# Altium schematic symbol library Protection DC.SchLib: 1 symbol
Pins are listed as number, name and electrical type; pins without a type are passive.

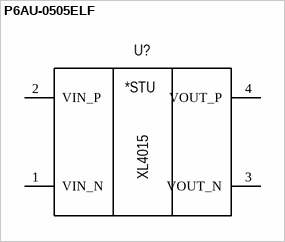
[diagram p0: symbol P6AU-0505ELF]

## P6AU-0505ELF
designator U?, comment XL4015
Manufacturer: XLSEMI; Group: PMIC - Voltage Regulators - DC DC Switching Regulators; Package: TO-263-5; Part name: XL4015; Datasheet: http://www.xlsemi.com/datasheet/xl4015%20datasheet.pdf
footprint POWER DCDC P6AU
pins: 1 VIN_N, 2 VIN_P, 3 VOUT_N, 4 VOUT_P
text: *STU